# Altium schematic symbol library LED_SMD.SchLib: 2 symbols
Pins are listed as number, name and electrical type; pins without a type are passive.

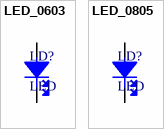
[diagram p0: symbols LED_0603 to LED_0805]

## LED_0603
designator LD?, comment LED
0603 SMD LED.
footprint LED_0603_Y (LED YELLOW SMD 0603.)
footprint LED_0603_B (LED BLUE SMD 0603.)
footprint LED_0603_G (LED GREEN SMD 0603.)
footprint LED_0603_R (LED RED SMD 0603.)
pins: 1, 2

## LED_0805
designator LD?, comment LED
0805 SMD LED.
footprint LED0603_Y
footprint LED0805_Y (Led yellow SMD 0805.)
footprint LED_0805_Y (LED YELLOW SMD 0805.)
footprint LED_0805_B (LED BLUE SMD 0805.)
footprint LED_0805_G (LED GREEN SMD 0805.)
footprint LED_0805_R (LED RED SMD 0805.)
pins: 1, 2